# Altium footprint library Keystone.PCBLIB: 6 footprints
Each footprint in its own frame and in the unit in brackets; x right, y up, seen from the top. Pads: shape width x height; smd on the part's side, far side on the other; paste and mask are expansions set on the pad; w line width, h text height; cw(c..) or ccw(c..) is an arc to the next point about the centre after c.
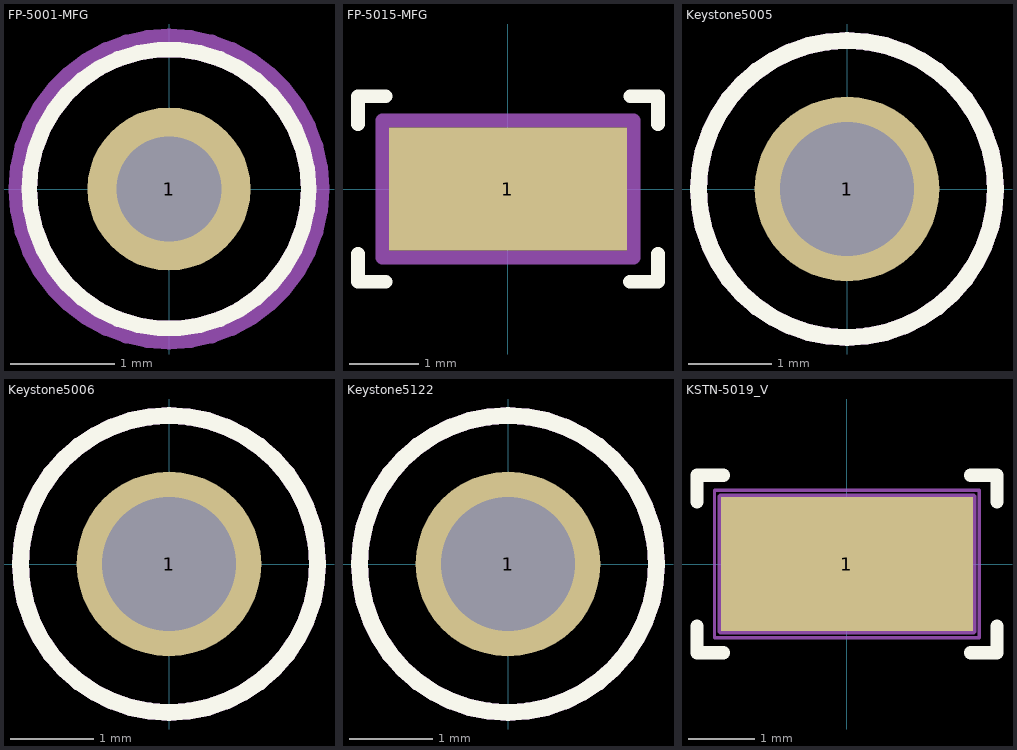
[diagram p0: the footprints below, top view; thin cyan lines are the x and y axes]

## FP-5001-MFG [mm]
pads (1):
  round 1.57 hole 1.016 paste-2539.97 mask+0: 1(0,0)
Top Overlay:
  circle w0.15: c0,0 r1.345
Top Assembly:
  circle w0.15: c0,0 r1.345
Top Courtyard:
  lines w0.2: -1.445,0 cw(c0,0) 1.445,0 cw(c0,0) -1.445,0
Top Designator:
  text ".Designator" at 0,0.188 h1
Top Component Center:
  lines w0.1: -0.5,0 0.5,0 ; 0,-0.5 0,0.5
3D body "Conn_Keystone_5001_eec.STEP": height 0.25, standoff 0, extent -1.445,-1.445 1.445,1.445

## FP-5015-MFG [mm]
pads (1):
  rect 3.43x1.78 smd paste+0 mask+0: 1(0,0)
Top Overlay:
  lines w0.2: -2.165,-0.94 -2.165,-1.34 -1.765,-1.34 ; -2.165,0.94 -2.165,1.34 -1.765,1.34 ; 1.764,-1.339 2.164,-1.339 2.164,-0.939 ; 1.766,1.339 2.166,1.339 2.166,0.939
Top Assembly:
  lines w0.2: -1.815,-0.99 1.815,-0.99 1.815,0.99 -1.815,0.99 -1.815,-0.99
Top Courtyard:
  lines w0.2: -1.815,-0.99 1.815,-0.99 1.815,0.99 -1.815,0.99 -1.815,-0.99
Top Designator:
  text ".Designator" at 0,-0.001 h1
Top Component Center:
  lines w0.1: -0.5,0 0.5,0 ; 0,-0.5 0,0.5
3D body "5015--3DModel-STEP-269445.STEP": height 1.52, standoff 0, extent -1.333,-0.508 1.333,0.508

## Keystone5005 [mil] "Keystone Compact loops"
height 220
pads (1):
  round 87 hole 63: 1(0,0)
Top Overlay:
  circle w7.99: c0,0 r70
Top Assembly:
  circle w5: c0,0 r70.71
Top Courtyard:
  circle w7.99: c0,0 r70
Top Designator:
  text ".Designator" at -55,-15 h30
3D body "Keystone_5005.stp": height 225.2, standoff -129.92, extent -63,-63 62.49,62.74

## Keystone5006 [mil] "Keystone Compact loops"
height 220
pads (1):
  round 87 hole 63: 1(0,0)
Top Overlay:
  circle w7.99: c0,0 r70
Top Assembly:
  circle w5: c0,0 r70.71
Top Courtyard:
  circle w7.99: c0,0 r70
Top Designator:
  text ".Designator" at -55,-15 h30
3D body "Keystone_5006.stp": height 225.2, standoff -129.92, extent -63,-63 62.49,62.74

## Keystone5122 [mil] "Keystone Compact loops"
height 220
pads (1):
  round 87 hole 63: 1(0,0)
Top Overlay:
  circle w7.99: c0,0 r70
Top Assembly:
  circle w5: c0,0 r70.71
Top Courtyard:
  circle w7.99: c0,0 r70
Top Designator:
  text ".Designator" at -55,-15 h30
3D body "Keystone_5122.stp": height 225.2, standoff -129.92, extent -63,-63 62.49,62.74

## KSTN-5019_V [mm] "Test Point, 1-Leads, Body 3.81x2.03mm"
height 2.42
pads (1):
  rect 3.8x2.03 smd: 1(0,0)
Top Overlay:
  lines w0.2: -2.265,-0.94 -2.265,-1.34 -1.865,-1.34 ; -2.265,0.94 -2.265,1.34 -1.865,1.34 ; 1.864,-1.339 2.264,-1.339 2.264,-0.939 ; 1.866,1.339 2.266,1.339 2.266,0.939
Top Assembly:
  lines w0.1: -1.905,-1.015 -1.905,1.015 1.905,1.015 1.905,-1.015 -1.905,-1.015
Top Courtyard:
  lines w0.05: -2,-1.115 2,-1.115 2,1.115 -2,1.115 -2,-1.115
Top Designator:
  text ".Designator" at 0,0 h1
Top Component Center:
  lines w0.1: -0.5,0 0.5,0 ; 0,-0.5 0,0.5
3D body "keystone-PN5019.STEP": height 2.29, standoff 0, extent -1.905,-1.015 1.905,1.017